# Altium schematic symbol library SCH - CONNECTORS NET TIE 1 TO 1 small.SCHLIB: 1 symbol
Pins are listed as number, name and electrical type; pins without a type are passive.

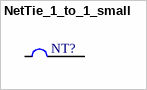
[diagram p0: symbol NetTie_1_to_1_small]

## NetTie_1_to_1_small
designator NT?  (value not drawn)  (net tie, no BOM)
pins: 1, 2